# Altium schematic symbol library Bourns PEC11R.Schlib: 1 symbol
Pins are listed as number, name and electrical type; pins without a type are passive.

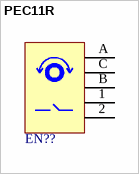
[diagram p0: symbol PEC11R]

## PEC11R
designator EN??
12 mm Incremental Encoder; Manufacturer: Bourns; Value: PEC11R-4215K-S0024; TYPE: Encoders; ComponentLink1Description: Datasheet Link; ComponentLink1URL: https://ru.mouser.com/datasheet/2/54/PEC11R-777457.pdf; Technology: Incremental; RoHS: Y; Supplier 1: Mouser; Supplier Part Number 1: 652-PEC11R-4215K-S24; Part Number: PEC11R-4215K-S0024
footprint PEC11R-4xxxF-Sxxxx (12 mm Incremental Encoder)
pins: 1, 2, A, B, C